# Altium footprint library JST B5B-PH-K.PCBLIB: 1 footprints
Each footprint in its own frame and in the unit in brackets; x right, y up, seen from the top. Pads: shape width x height; smd on the part's side, far side on the other; paste and mask are expansions set on the pad; w line width, h text height; cw(c..) or ccw(c..) is an arc to the next point about the centre after c.
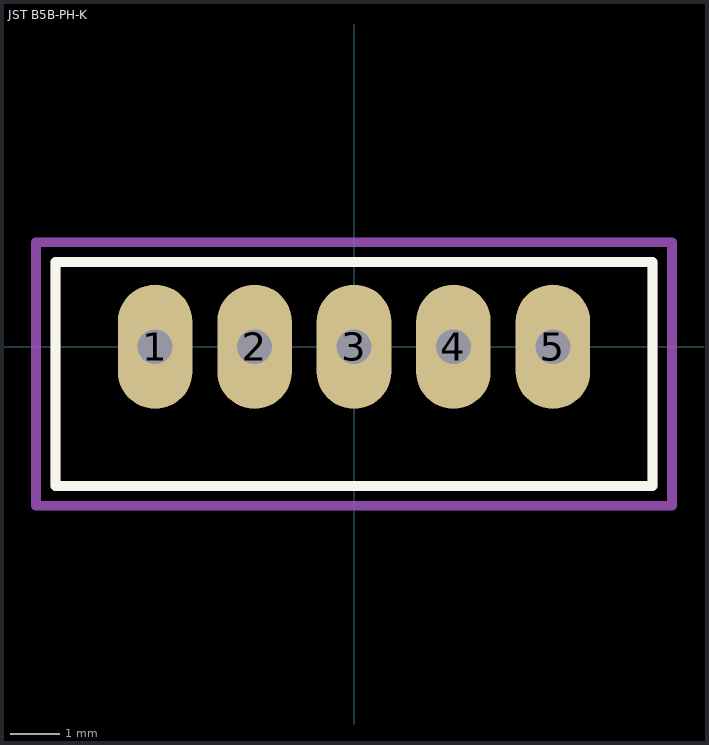
[diagram p0: the footprint, top view; thin cyan lines are the x and y axes]

## JST B5B-PH-K [mm]
height 6
pads (5):
  oval 1.5x2.5 hole 0.7: 1(-4,0) 2(-2,0) 3(0,0) 4(2,0) 5(4,0)
Top Overlay:
  lines w0.2: -6,-2.8 -6,1.7 6,1.7 6,-2.8 -6,-2.8
Bottom Overlay:
  circle w0.254: c-5.1,1.1 r0.141
Mechanical 13:
  lines w0.2: -6,-2.8 6,-2.8 6,1.7 -6,1.7 -6,-2.8
Mechanical 15:
  lines w0.2: -0.5,0 0.5,0 ; 0,-0.5 0,0.5 ; -6.4,-3.2 6.4,-3.2 6.4,2.1 -6.4,2.1 -6.4,-3.2
3D body "JST B5B-PH-K-S.STEP": height 6, standoff -3.4, extent -5.95,-2.8 5.95,1.7